# Altium integrated library Linear Technology Power Management PMIC Multifunction.IntLib: 360 symbols (part 19 of 42)
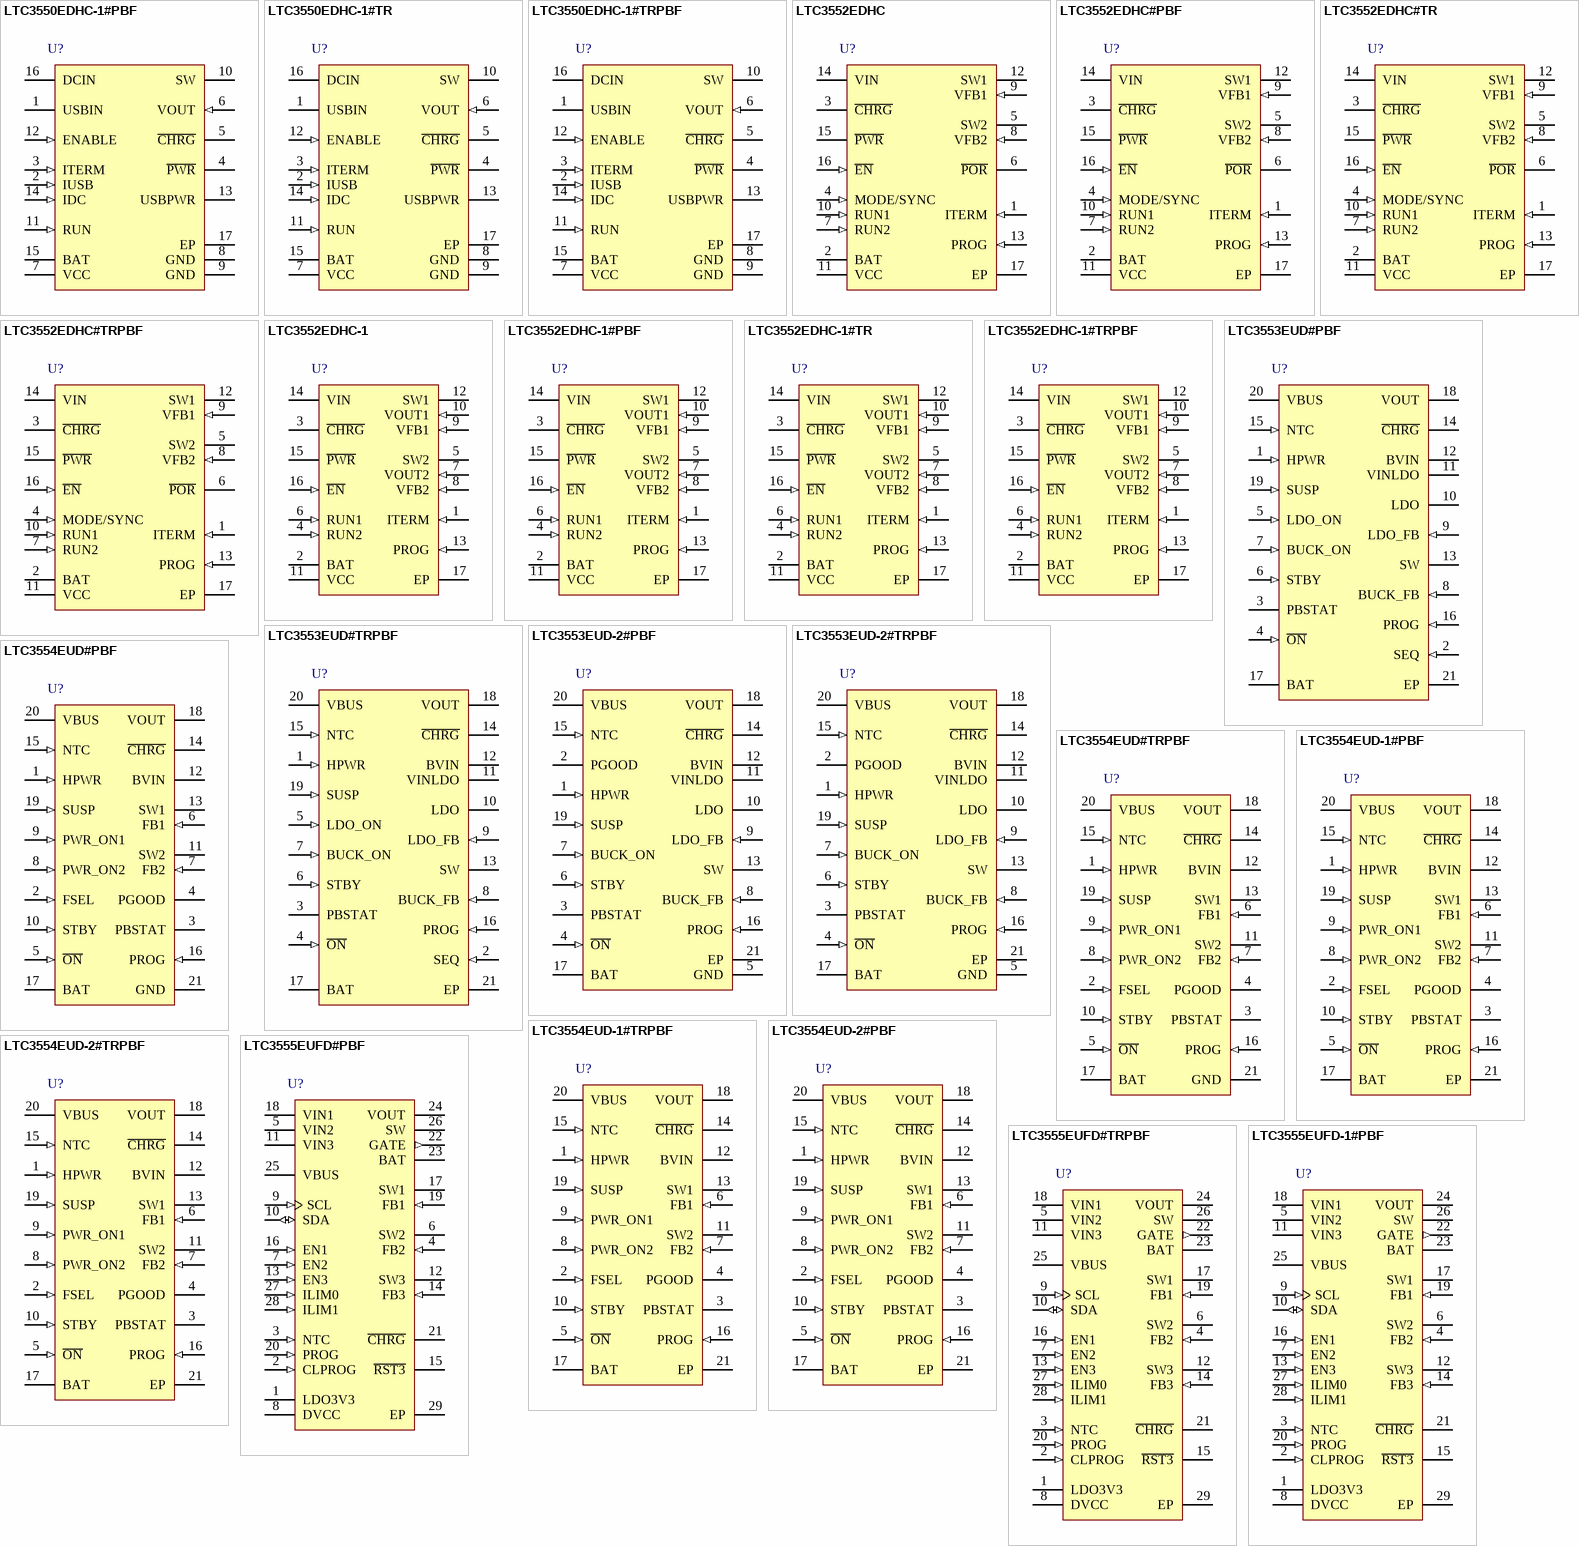
[diagram p36: symbols LTC3550EDHC-1#PBF to LTC3555EUFD-1#PBF]

## LTC3552EDHC
designator U?
Standalone Linear Li-Ion Battery Charger and Dual Synchronous Buck Converter, 4.25 to 8 V Vin, 16-pin SON (DHC-16), -40 to 85 degC; Manufacturer: Linear Technology; PartNumber: LTC3552EDHC; Number of Cells: 1; Number of Outputs: 2; Vin Max(V): 8; Vin Min(V): 4.25; PackageVersion: Jun-10; PackageReference: DHC-16; PackageDescription: 16-Pin Plastic DFN, Body 5 x 3 mm, Pitch 0.5 mm; RoHS: FALSE; Mounting Technology: Surface Mount; Code_JEDEC: MO-229; ComponentLink1Description: Manufacturer URL; ComponentLink1URL: http://www.linear.com/; ComponentLink2Description: Datasheet; ComponentLink2URL: http://cds.linear.com/docs/en/datasheet/3552f.pdf; ComponentLink3Description: Package Specification; ComponentLink3URL: http://cds.linear.com/docs/en/packaging/DFN_16_05-08-1706.pdf
footprint LT-DHC-16_V (SON, 16-Leads, Body 5x3mm, Pitch 0.5mm, Thermal Pad 4.4X1.65mm)
pins: 1 ITERM (in) "Charge Termination Program. The charge termination current threshold is programmed by connecting a 1% resistor, RTERM, to ground. The current threshold ITERM, is set by the following formula", 2 BAT (power) "Charge Current Output. Provides charge current to the battery from the internal P-channel MOSFET, and regulates the final float voltage to 4.2V. An internal precision resistor divider from this pin sets the float voltage. (See Datasheet)", 3 ~{CHRG} (hiz) "Charge Status Open-Drain Output. When the battery is charging, the C\H\R\G\ pin is pulled low by an internal N-channel MOSFET. When the charge cycle is completed, C\H\R\G\ becomes high impedance.", 4 MODE/SYNC (in) "Combination Mode Selection and Oscillator Synchronization. This pin controls the operation of the buck regulators. When tied to VCC or GND, Burst Mode operation or pulse-skipping mode is selected, respectively. Do not float (See Datasheet)", 5 SW2 (power) "Regulator 2 Switch Node Connection to the Inductor. This pin swings from VCC to GND.", 6 ~{POR} (oc) "Power-On Reset. This open-drain logic output is pulled to GND when either output voltage drops 8.5% from the regulated voltage and goes high after 262,144 clock cycles when both regulators are within regulation.", 7 RUN2 (in) "Regulator 2 Enable. Forcing this pin to VCC enables regulator 2, while forcing it to GND causes regulator 2 to shut down. This pin must be driven; do not float.", 8 VFB2 (in) "Output Feedback for Regulator 2. Receives the feedback voltage from the external resistive divider across the output. Normal voltage for this pin is 600mV.", 9 VFB1 (in) "Output Feedback for Regulator 1. Receives the feedback voltage from the external resistive divider across the output. Normal voltage for this pin is 600mV.", 10 RUN1 (in) "Regulator 1 Enable. Forcing this pin to VCC enables regulator 1, while forcing it to GND causes regulator 1 to shut down. This pin must be driven; do not float.", 11 VCC (power) "Buck Regulators Input Supply. Provides power to the switchers. Must be closely decoupled to GND.", 12 SW1 (power) "Regulator 1 Switch Node Connection to the Inductor. This pin swings from VCC to GND.", 13 PROG (in) "Charge Current Program and Charge Current Monitor. Charge current is programmed by connecting a 1% resistor, RPROG, to ground. When charging in constant-current mode, this pin servos to 1V. In all modes, the voltage on this (See Datasheet)", 14 VIN (power) "Charger Input Supply. Provides power to the charger. VIN can range from 4.25V to 8V. This pin should be bypassed with at least a 1uF capacitor. When VIN is within 100mV of the BAT pin voltage, the charger enters shutdown (See Datasheet)", 15 ~{PWR} (hiz) "Charger Power Supply Status Open-Drain Output. When VIN is greater than the undervoltage lockout threshold and at least 100mV above VBAT, the P\W\R\ pin is pulled to ground; otherwise, the pin is high impedance.", 16 ~{EN} (in) "Enable Input. A logic high on the E\N\ pin will put the charger into shutdown mode where the battery drain current is reduced to less than 2uA and the supply current is reduced to less than 50uA. A logic low or floating the (See Datasheet)", 17 EP (power) "Ground. The exposed backside of the package (Pin 17) is ground and must be soldered to the PCB for maximum heat transfer."

## LTC3552EDHC#PBF
designator U?
Standalone Linear Li-Ion Battery Charger and Dual Synchronous Buck Converter, 4.25 to 8 V Vin, 16-pin SON (DHC-16), -40 to 85 degC, Pb-Free; Manufacturer: Linear Technology; PartNumber: LTC3552EDHC#PBF; Number of Cells: 1; Number of Outputs: 2; Vin Max(V): 8; Vin Min(V): 4.25; PackageVersion: Jun-10; PackageReference: DHC-16; PackageDescription: 16-Pin Plastic DFN, Body 5 x 3 mm, Pitch 0.5 mm; Supplier 1: Digi-Key; Supplier Part Number 1: LTC3552EDHC#PBF-ND; RoHS: TRUE; Mounting Technology: Surface Mount; Code_JEDEC: MO-229; ComponentLink1Description: Manufacturer URL; ComponentLink1URL: http://www.linear.com/; ComponentLink2Description: Datasheet; ComponentLink2URL: http://cds.linear.com/docs/en/datasheet/3552f.pdf; ComponentLink3Description: Package Specification; ComponentLink3URL: http://cds.linear.com/docs/en/packaging/DFN_16_05-08-1706.pdf
footprint LT-DHC-16_V (SON, 16-Leads, Body 5x3mm, Pitch 0.5mm, Thermal Pad 4.4X1.65mm)
pins: 1 ITERM (in) "Charge Termination Program. The charge termination current threshold is programmed by connecting a 1% resistor, RTERM, to ground. The current threshold ITERM, is set by the following formula", 2 BAT (power) "Charge Current Output. Provides charge current to the battery from the internal P-channel MOSFET, and regulates the final float voltage to 4.2V. An internal precision resistor divider from this pin sets the float voltage. (See Datasheet)", 3 ~{CHRG} (hiz) "Charge Status Open-Drain Output. When the battery is charging, the C\H\R\G\ pin is pulled low by an internal N-channel MOSFET. When the charge cycle is completed, C\H\R\G\ becomes high impedance.", 4 MODE/SYNC (in) "Combination Mode Selection and Oscillator Synchronization. This pin controls the operation of the buck regulators. When tied to VCC or GND, Burst Mode operation or pulse-skipping mode is selected, respectively. Do not float (See Datasheet)", 5 SW2 (power) "Regulator 2 Switch Node Connection to the Inductor. This pin swings from VCC to GND.", 6 ~{POR} (oc) "Power-On Reset. This open-drain logic output is pulled to GND when either output voltage drops 8.5% from the regulated voltage and goes high after 262,144 clock cycles when both regulators are within regulation.", 7 RUN2 (in) "Regulator 2 Enable. Forcing this pin to VCC enables regulator 2, while forcing it to GND causes regulator 2 to shut down. This pin must be driven; do not float.", 8 VFB2 (in) "Output Feedback for Regulator 2. Receives the feedback voltage from the external resistive divider across the output. Normal voltage for this pin is 600mV.", 9 VFB1 (in) "Output Feedback for Regulator 1. Receives the feedback voltage from the external resistive divider across the output. Normal voltage for this pin is 600mV.", 10 RUN1 (in) "Regulator 1 Enable. Forcing this pin to VCC enables regulator 1, while forcing it to GND causes regulator 1 to shut down. This pin must be driven; do not float.", 11 VCC (power) "Buck Regulators Input Supply. Provides power to the switchers. Must be closely decoupled to GND.", 12 SW1 (power) "Regulator 1 Switch Node Connection to the Inductor. This pin swings from VCC to GND.", 13 PROG (in) "Charge Current Program and Charge Current Monitor. Charge current is programmed by connecting a 1% resistor, RPROG, to ground. When charging in constant-current mode, this pin servos to 1V. In all modes, the voltage on this (See Datasheet)", 14 VIN (power) "Charger Input Supply. Provides power to the charger. VIN can range from 4.25V to 8V. This pin should be bypassed with at least a 1uF capacitor. When VIN is within 100mV of the BAT pin voltage, the charger enters shutdown (See Datasheet)", 15 ~{PWR} (hiz) "Charger Power Supply Status Open-Drain Output. When VIN is greater than the undervoltage lockout threshold and at least 100mV above VBAT, the P\W\R\ pin is pulled to ground; otherwise, the pin is high impedance.", 16 ~{EN} (in) "Enable Input. A logic high on the E\N\ pin will put the charger into shutdown mode where the battery drain current is reduced to less than 2uA and the supply current is reduced to less than 50uA. A logic low or floating the (See Datasheet)", 17 EP (power) "Ground. The exposed backside of the package (Pin 17) is ground and must be soldered to the PCB for maximum heat transfer."

## LTC3552EDHC#TR
designator U?
Standalone Linear Li-Ion Battery Charger and Dual Synchronous Buck Converter, 4.25 to 8 V Vin, 16-pin SON (DHC-16), -40 to 85 degC, Tape and Reel; Manufacturer: Linear Technology; PartNumber: LTC3552EDHC#TR; Number of Cells: 1; Number of Outputs: 2; Vin Max(V): 8; Vin Min(V): 4.25; PackageVersion: Jun-10; PackageReference: DHC-16; PackageDescription: 16-Pin Plastic DFN, Body 5 x 3 mm, Pitch 0.5 mm; Packing: Tape and Reel; RoHS: FALSE; Mounting Technology: Surface Mount; Code_JEDEC: MO-229; ComponentLink1Description: Manufacturer URL; ComponentLink1URL: http://www.linear.com/; ComponentLink2Description: Datasheet; ComponentLink2URL: http://cds.linear.com/docs/en/datasheet/3552f.pdf; ComponentLink3Description: Package Specification; ComponentLink3URL: http://cds.linear.com/docs/en/packaging/DFN_16_05-08-1706.pdf
footprint LT-DHC-16_V (SON, 16-Leads, Body 5x3mm, Pitch 0.5mm, Thermal Pad 4.4X1.65mm)
pins: 1 ITERM (in) "Charge Termination Program. The charge termination current threshold is programmed by connecting a 1% resistor, RTERM, to ground. The current threshold ITERM, is set by the following formula", 2 BAT (power) "Charge Current Output. Provides charge current to the battery from the internal P-channel MOSFET, and regulates the final float voltage to 4.2V. An internal precision resistor divider from this pin sets the float voltage. (See Datasheet)", 3 ~{CHRG} (hiz) "Charge Status Open-Drain Output. When the battery is charging, the C\H\R\G\ pin is pulled low by an internal N-channel MOSFET. When the charge cycle is completed, C\H\R\G\ becomes high impedance.", 4 MODE/SYNC (in) "Combination Mode Selection and Oscillator Synchronization. This pin controls the operation of the buck regulators. When tied to VCC or GND, Burst Mode operation or pulse-skipping mode is selected, respectively. Do not float (See Datasheet)", 5 SW2 (power) "Regulator 2 Switch Node Connection to the Inductor. This pin swings from VCC to GND.", 6 ~{POR} (oc) "Power-On Reset. This open-drain logic output is pulled to GND when either output voltage drops 8.5% from the regulated voltage and goes high after 262,144 clock cycles when both regulators are within regulation.", 7 RUN2 (in) "Regulator 2 Enable. Forcing this pin to VCC enables regulator 2, while forcing it to GND causes regulator 2 to shut down. This pin must be driven; do not float.", 8 VFB2 (in) "Output Feedback for Regulator 2. Receives the feedback voltage from the external resistive divider across the output. Normal voltage for this pin is 600mV.", 9 VFB1 (in) "Output Feedback for Regulator 1. Receives the feedback voltage from the external resistive divider across the output. Normal voltage for this pin is 600mV.", 10 RUN1 (in) "Regulator 1 Enable. Forcing this pin to VCC enables regulator 1, while forcing it to GND causes regulator 1 to shut down. This pin must be driven; do not float.", 11 VCC (power) "Buck Regulators Input Supply. Provides power to the switchers. Must be closely decoupled to GND.", 12 SW1 (power) "Regulator 1 Switch Node Connection to the Inductor. This pin swings from VCC to GND.", 13 PROG (in) "Charge Current Program and Charge Current Monitor. Charge current is programmed by connecting a 1% resistor, RPROG, to ground. When charging in constant-current mode, this pin servos to 1V. In all modes, the voltage on this (See Datasheet)", 14 VIN (power) "Charger Input Supply. Provides power to the charger. VIN can range from 4.25V to 8V. This pin should be bypassed with at least a 1uF capacitor. When VIN is within 100mV of the BAT pin voltage, the charger enters shutdown (See Datasheet)", 15 ~{PWR} (hiz) "Charger Power Supply Status Open-Drain Output. When VIN is greater than the undervoltage lockout threshold and at least 100mV above VBAT, the P\W\R\ pin is pulled to ground; otherwise, the pin is high impedance.", 16 ~{EN} (in) "Enable Input. A logic high on the E\N\ pin will put the charger into shutdown mode where the battery drain current is reduced to less than 2uA and the supply current is reduced to less than 50uA. A logic low or floating the (See Datasheet)", 17 EP (power) "Ground. The exposed backside of the package (Pin 17) is ground and must be soldered to the PCB for maximum heat transfer."

## LTC3552EDHC#TRPBF
designator U?
Standalone Linear Li-Ion Battery Charger and Dual Synchronous Buck Converter, 4.25 to 8 V Vin, 16-pin SON (DHC-16), -40 to 85 degC, Pb-Free, Tape and Reel; Manufacturer: Linear Technology; PartNumber: LTC3552EDHC#TRPBF; Number of Cells: 1; Number of Outputs: 2; Vin Max(V): 8; Vin Min(V): 4.25; PackageVersion: Jun-10; PackageReference: DHC-16; PackageDescription: 16-Pin Plastic DFN, Body 5 x 3 mm, Pitch 0.5 mm; Supplier 1: Digi-Key; Supplier Part Number 1: LTC3552EDHC#TRPBF-ND; Packing: Tape and Reel; RoHS: TRUE; Mounting Technology: Surface Mount; Code_JEDEC: MO-229; ComponentLink1Description: Manufacturer URL; ComponentLink1URL: http://www.linear.com/; ComponentLink2Description: Datasheet; ComponentLink2URL: http://cds.linear.com/docs/en/datasheet/3552f.pdf; ComponentLink3Description: Package Specification; ComponentLink3URL: http://cds.linear.com/docs/en/packaging/DFN_16_05-08-1706.pdf
footprint LT-DHC-16_V (SON, 16-Leads, Body 5x3mm, Pitch 0.5mm, Thermal Pad 4.4X1.65mm)
pins: 1 ITERM (in) "Charge Termination Program. The charge termination current threshold is programmed by connecting a 1% resistor, RTERM, to ground. The current threshold ITERM, is set by the following formula", 2 BAT (power) "Charge Current Output. Provides charge current to the battery from the internal P-channel MOSFET, and regulates the final float voltage to 4.2V. An internal precision resistor divider from this pin sets the float voltage. (See Datasheet)", 3 ~{CHRG} (hiz) "Charge Status Open-Drain Output. When the battery is charging, the C\H\R\G\ pin is pulled low by an internal N-channel MOSFET. When the charge cycle is completed, C\H\R\G\ becomes high impedance.", 4 MODE/SYNC (in) "Combination Mode Selection and Oscillator Synchronization. This pin controls the operation of the buck regulators. When tied to VCC or GND, Burst Mode operation or pulse-skipping mode is selected, respectively. Do not float (See Datasheet)", 5 SW2 (power) "Regulator 2 Switch Node Connection to the Inductor. This pin swings from VCC to GND.", 6 ~{POR} (oc) "Power-On Reset. This open-drain logic output is pulled to GND when either output voltage drops 8.5% from the regulated voltage and goes high after 262,144 clock cycles when both regulators are within regulation.", 7 RUN2 (in) "Regulator 2 Enable. Forcing this pin to VCC enables regulator 2, while forcing it to GND causes regulator 2 to shut down. This pin must be driven; do not float.", 8 VFB2 (in) "Output Feedback for Regulator 2. Receives the feedback voltage from the external resistive divider across the output. Normal voltage for this pin is 600mV.", 9 VFB1 (in) "Output Feedback for Regulator 1. Receives the feedback voltage from the external resistive divider across the output. Normal voltage for this pin is 600mV.", 10 RUN1 (in) "Regulator 1 Enable. Forcing this pin to VCC enables regulator 1, while forcing it to GND causes regulator 1 to shut down. This pin must be driven; do not float.", 11 VCC (power) "Buck Regulators Input Supply. Provides power to the switchers. Must be closely decoupled to GND.", 12 SW1 (power) "Regulator 1 Switch Node Connection to the Inductor. This pin swings from VCC to GND.", 13 PROG (in) "Charge Current Program and Charge Current Monitor. Charge current is programmed by connecting a 1% resistor, RPROG, to ground. When charging in constant-current mode, this pin servos to 1V. In all modes, the voltage on this (See Datasheet)", 14 VIN (power) "Charger Input Supply. Provides power to the charger. VIN can range from 4.25V to 8V. This pin should be bypassed with at least a 1uF capacitor. When VIN is within 100mV of the BAT pin voltage, the charger enters shutdown (See Datasheet)", 15 ~{PWR} (hiz) "Charger Power Supply Status Open-Drain Output. When VIN is greater than the undervoltage lockout threshold and at least 100mV above VBAT, the P\W\R\ pin is pulled to ground; otherwise, the pin is high impedance.", 16 ~{EN} (in) "Enable Input. A logic high on the E\N\ pin will put the charger into shutdown mode where the battery drain current is reduced to less than 2uA and the supply current is reduced to less than 50uA. A logic low or floating the (See Datasheet)", 17 EP (power) "Ground. The exposed backside of the package (Pin 17) is ground and must be soldered to the PCB for maximum heat transfer."

## LTC3552EDHC-1
designator U?
Standalone Linear Li-Ion Battery Charger and Dual Synchronous Buck Converter, 4.25 to 8 V Vin, 16-pin SON (DHC-16), -40 to 85 degC; Manufacturer: Linear Technology; PartNumber: LTC3552EDHC-1; Number of Cells: 1; Number of Outputs: 2; Vin Max(V): 8; Vin Min(V): 4.25; DatasheetVersion: Rev. A; PackageVersion: Jun-10; PackageReference: DHC-16; PackageDescription: 16-Pin Plastic DFN, Body 5 x 3 mm, Pitch 0.5 mm; RoHS: FALSE; Mounting Technology: Surface Mount; Code_JEDEC: MO-229; ComponentLink1Description: Manufacturer URL; ComponentLink1URL: http://www.linear.com/; ComponentLink2Description: Datasheet; ComponentLink2URL: http://cds.linear.com/docs/en/datasheet/35521fa.pdf; ComponentLink3Description: Package Specification; ComponentLink3URL: http://cds.linear.com/docs/en/packaging/DFN_16_05-08-1706.pdf
footprint LT-DHC-16_V (SON, 16-Leads, Body 5x3mm, Pitch 0.5mm, Thermal Pad 4.4X1.65mm)
pins: 1 ITERM (in) "Charge Termination Program. The charge termination current threshold is programmed by connecting a 1% resistor, RTERM, to ground. The current threshold ITERM, is set by the following formula", 2 BAT (power) "Charge Current Output. Provides charge current to the battery from the internal P-channel MOSFET, and regulates the final float voltage to 4.2V. An internal precision resistor divider from this pin sets the float voltage. (See Datasheet)", 3 ~{CHRG} (hiz) "Charge Status Open-Drain Output. When the battery is charging, the C\H\R\G\ pin is pulled low by an internal N-channel MOSFET. When the charge cycle is completed, C\H\R\G\ becomes high impedance.", 4 RUN2 (in) "Regulator 2 Enable. Forcing this pin to VCC enables regulator 2, while forcing it to GND causes regulator 2 to shut down. This pin must be driven; do not float.", 5 SW2 (power) "Regulator 2 Switch Node Connection to the Inductor. This pin swings from VCC to GND.", 6 RUN1 (in) "Regulator 1 Enable. Forcing this pin to VCC enables regulator 1, while forcing it to GND causes regulator 1 to shut down. This pin must be driven; do not float.", 7 VOUT2 (in) "Output Voltage Feedback Pin for Regulator 2. Internal resistors divide the output voltage down for comparison to the internal reference voltage.", 8 VFB2 (in) "Output Feedback for Regulator 2. Receives the feedback voltage from the external resistive divider across the output. Normal voltage for this pin is 600mV.", 9 VFB1 (in) "Output Feedback for Regulator 1. Receives the feedback voltage from the external resistive divider across the output. Normal voltage for this pin is 600mV.", 10 VOUT1 (in) "Output Voltage Feedback Pin for Regulator 1. Internal resistors divide the output voltage down for comparison to the internal reference voltage.", 11 VCC (power) "Buck Regulators Input Supply. Provides power to the switchers. Must be closely decoupled to GND.", 12 SW1 (power) "Regulator 1 Switch Node Connection to the Inductor. This pin swings from VCC to GND.", 13 PROG (in) "Charge Current Program and Charge Current Monitor. Charge current is programmed by connecting a 1% resistor, RPROG, to ground. When charging in constant-current mode, this pin servos to 1V. In all modes, the voltage on this (See Datasheet)", 14 VIN (power) "Charger Input Supply. Provides power to the charger. VIN can range from 4.25V to 8V. This pin should be bypassed with at least a 1uF capacitor. When VIN is within 100mV of the BAT pin voltage, the charger enters shutdown (See Datasheet)", 15 ~{PWR} (hiz) "Charger Power Supply Status Open-Drain Output. When VIN is greater than the undervoltage lockout threshold and at least 100mV above VBAT, the P\W\R\ pin is pulled to ground; otherwise, the pin is high impedance.", 16 ~{EN} (in) "Enable Input. A logic high on the E\N\ pin will put the charger into shutdown mode where the battery drain current is reduced to less than 2uA and the supply current is reduced to less than 50uA. A logic low or floating the (See Datasheet)", 17 EP (power) "Ground. The exposed backside of the package (Pin 17) is ground and must be soldered to the PCB for maximum heat transfer."

## LTC3552EDHC-1#PBF
designator U?
Standalone Linear Li-Ion Battery Charger and Dual Synchronous Buck Converter, 4.25 to 8 V Vin, 16-pin SON (DHC-16), -40 to 85 degC, Pb-Free; Manufacturer: Linear Technology; PartNumber: LTC3552EDHC-1#PBF; Number of Cells: 1; Number of Outputs: 2; Vin Max(V): 8; Vin Min(V): 4.25; DatasheetVersion: Rev. A; PackageVersion: Jun-10; PackageReference: DHC-16; PackageDescription: 16-Pin Plastic DFN, Body 5 x 3 mm, Pitch 0.5 mm; Supplier 1: Digi-Key; Supplier Part Number 1: LTC3552EDHC-1#PBF-ND; RoHS: TRUE; Mounting Technology: Surface Mount; Code_JEDEC: MO-229; ComponentLink1Description: Manufacturer URL; ComponentLink1URL: http://www.linear.com/; ComponentLink2Description: Datasheet; ComponentLink2URL: http://cds.linear.com/docs/en/datasheet/35521fa.pdf; ComponentLink3Description: Package Specification; ComponentLink3URL: http://cds.linear.com/docs/en/packaging/DFN_16_05-08-1706.pdf
footprint LT-DHC-16_V (SON, 16-Leads, Body 5x3mm, Pitch 0.5mm, Thermal Pad 4.4X1.65mm)
pins: 1 ITERM (in) "Charge Termination Program. The charge termination current threshold is programmed by connecting a 1% resistor, RTERM, to ground. The current threshold ITERM, is set by the following formula", 2 BAT (power) "Charge Current Output. Provides charge current to the battery from the internal P-channel MOSFET, and regulates the final float voltage to 4.2V. An internal precision resistor divider from this pin sets the float voltage. (See Datasheet)", 3 ~{CHRG} (hiz) "Charge Status Open-Drain Output. When the battery is charging, the C\H\R\G\ pin is pulled low by an internal N-channel MOSFET. When the charge cycle is completed, C\H\R\G\ becomes high impedance.", 4 RUN2 (in) "Regulator 2 Enable. Forcing this pin to VCC enables regulator 2, while forcing it to GND causes regulator 2 to shut down. This pin must be driven; do not float.", 5 SW2 (power) "Regulator 2 Switch Node Connection to the Inductor. This pin swings from VCC to GND.", 6 RUN1 (in) "Regulator 1 Enable. Forcing this pin to VCC enables regulator 1, while forcing it to GND causes regulator 1 to shut down. This pin must be driven; do not float.", 7 VOUT2 (in) "Output Voltage Feedback Pin for Regulator 2. Internal resistors divide the output voltage down for comparison to the internal reference voltage.", 8 VFB2 (in) "Output Feedback for Regulator 2. Receives the feedback voltage from the external resistive divider across the output. Normal voltage for this pin is 600mV.", 9 VFB1 (in) "Output Feedback for Regulator 1. Receives the feedback voltage from the external resistive divider across the output. Normal voltage for this pin is 600mV.", 10 VOUT1 (in) "Output Voltage Feedback Pin for Regulator 1. Internal resistors divide the output voltage down for comparison to the internal reference voltage.", 11 VCC (power) "Buck Regulators Input Supply. Provides power to the switchers. Must be closely decoupled to GND.", 12 SW1 (power) "Regulator 1 Switch Node Connection to the Inductor. This pin swings from VCC to GND.", 13 PROG (in) "Charge Current Program and Charge Current Monitor. Charge current is programmed by connecting a 1% resistor, RPROG, to ground. When charging in constant-current mode, this pin servos to 1V. In all modes, the voltage on this (See Datasheet)", 14 VIN (power) "Charger Input Supply. Provides power to the charger. VIN can range from 4.25V to 8V. This pin should be bypassed with at least a 1uF capacitor. When VIN is within 100mV of the BAT pin voltage, the charger enters shutdown (See Datasheet)", 15 ~{PWR} (hiz) "Charger Power Supply Status Open-Drain Output. When VIN is greater than the undervoltage lockout threshold and at least 100mV above VBAT, the P\W\R\ pin is pulled to ground; otherwise, the pin is high impedance.", 16 ~{EN} (in) "Enable Input. A logic high on the E\N\ pin will put the charger into shutdown mode where the battery drain current is reduced to less than 2uA and the supply current is reduced to less than 50uA. A logic low or floating the (See Datasheet)", 17 EP (power) "Ground. The exposed backside of the package (Pin 17) is ground and must be soldered to the PCB for maximum heat transfer."

## LTC3552EDHC-1#TR
designator U?
Standalone Linear Li-Ion Battery Charger and Dual Synchronous Buck Converter, 4.25 to 8 V Vin, 16-pin SON (DHC-16), -40 to 85 degC, Tape and Reel; Manufacturer: Linear Technology; PartNumber: LTC3552EDHC-1#TR; Number of Cells: 1; Number of Outputs: 2; Vin Max(V): 8; Vin Min(V): 4.25; DatasheetVersion: Rev. A; PackageVersion: Jun-10; PackageReference: DHC-16; PackageDescription: 16-Pin Plastic DFN, Body 5 x 3 mm, Pitch 0.5 mm; Packing: Tape and Reel; RoHS: FALSE; Mounting Technology: Surface Mount; Code_JEDEC: MO-229; ComponentLink1Description: Manufacturer URL; ComponentLink1URL: http://www.linear.com/; ComponentLink2Description: Datasheet; ComponentLink2URL: http://cds.linear.com/docs/en/datasheet/35521fa.pdf; ComponentLink3Description: Package Specification; ComponentLink3URL: http://cds.linear.com/docs/en/packaging/DFN_16_05-08-1706.pdf
footprint LT-DHC-16_V (SON, 16-Leads, Body 5x3mm, Pitch 0.5mm, Thermal Pad 4.4X1.65mm)
pins: 1 ITERM (in) "Charge Termination Program. The charge termination current threshold is programmed by connecting a 1% resistor, RTERM, to ground. The current threshold ITERM, is set by the following formula", 2 BAT (power) "Charge Current Output. Provides charge current to the battery from the internal P-channel MOSFET, and regulates the final float voltage to 4.2V. An internal precision resistor divider from this pin sets the float voltage. (See Datasheet)", 3 ~{CHRG} (hiz) "Charge Status Open-Drain Output. When the battery is charging, the C\H\R\G\ pin is pulled low by an internal N-channel MOSFET. When the charge cycle is completed, C\H\R\G\ becomes high impedance.", 4 RUN2 (in) "Regulator 2 Enable. Forcing this pin to VCC enables regulator 2, while forcing it to GND causes regulator 2 to shut down. This pin must be driven; do not float.", 5 SW2 (power) "Regulator 2 Switch Node Connection to the Inductor. This pin swings from VCC to GND.", 6 RUN1 (in) "Regulator 1 Enable. Forcing this pin to VCC enables regulator 1, while forcing it to GND causes regulator 1 to shut down. This pin must be driven; do not float.", 7 VOUT2 (in) "Output Voltage Feedback Pin for Regulator 2. Internal resistors divide the output voltage down for comparison to the internal reference voltage.", 8 VFB2 (in) "Output Feedback for Regulator 2. Receives the feedback voltage from the external resistive divider across the output. Normal voltage for this pin is 600mV.", 9 VFB1 (in) "Output Feedback for Regulator 1. Receives the feedback voltage from the external resistive divider across the output. Normal voltage for this pin is 600mV.", 10 VOUT1 (in) "Output Voltage Feedback Pin for Regulator 1. Internal resistors divide the output voltage down for comparison to the internal reference voltage.", 11 VCC (power) "Buck Regulators Input Supply. Provides power to the switchers. Must be closely decoupled to GND.", 12 SW1 (power) "Regulator 1 Switch Node Connection to the Inductor. This pin swings from VCC to GND.", 13 PROG (in) "Charge Current Program and Charge Current Monitor. Charge current is programmed by connecting a 1% resistor, RPROG, to ground. When charging in constant-current mode, this pin servos to 1V. In all modes, the voltage on this (See Datasheet)", 14 VIN (power) "Charger Input Supply. Provides power to the charger. VIN can range from 4.25V to 8V. This pin should be bypassed with at least a 1uF capacitor. When VIN is within 100mV of the BAT pin voltage, the charger enters shutdown (See Datasheet)", 15 ~{PWR} (hiz) "Charger Power Supply Status Open-Drain Output. When VIN is greater than the undervoltage lockout threshold and at least 100mV above VBAT, the P\W\R\ pin is pulled to ground; otherwise, the pin is high impedance.", 16 ~{EN} (in) "Enable Input. A logic high on the E\N\ pin will put the charger into shutdown mode where the battery drain current is reduced to less than 2uA and the supply current is reduced to less than 50uA. A logic low or floating the (See Datasheet)", 17 EP (power) "Ground. The exposed backside of the package (Pin 17) is ground and must be soldered to the PCB for maximum heat transfer."

## LTC3552EDHC-1#TRPBF
designator U?
Standalone Linear Li-Ion Battery Charger and Dual Synchronous Buck Converter, 4.25 to 8 V Vin, 16-pin SON (DHC-16), -40 to 85 degC, Pb-Free, Tape and Reel; Manufacturer: Linear Technology; PartNumber: LTC3552EDHC-1#TRPBF; Number of Cells: 1; Number of Outputs: 2; Vin Max(V): 8; Vin Min(V): 4.25; DatasheetVersion: Rev. A; PackageVersion: Jun-10; PackageReference: DHC-16; PackageDescription: 16-Pin Plastic DFN, Body 5 x 3 mm, Pitch 0.5 mm; Supplier 1: Digi-Key; Supplier Part Number 1: LTC3552EDHC-1#TRPBF-ND; Packing: Tape and Reel; RoHS: TRUE; Mounting Technology: Surface Mount; Code_JEDEC: MO-229; ComponentLink1Description: Manufacturer URL; ComponentLink1URL: http://www.linear.com/; ComponentLink2Description: Datasheet; ComponentLink2URL: http://cds.linear.com/docs/en/datasheet/35521fa.pdf; ComponentLink3Description: Package Specification; ComponentLink3URL: http://cds.linear.com/docs/en/packaging/DFN_16_05-08-1706.pdf
footprint LT-DHC-16_V (SON, 16-Leads, Body 5x3mm, Pitch 0.5mm, Thermal Pad 4.4X1.65mm)
pins: 1 ITERM (in) "Charge Termination Program. The charge termination current threshold is programmed by connecting a 1% resistor, RTERM, to ground. The current threshold ITERM, is set by the following formula", 2 BAT (power) "Charge Current Output. Provides charge current to the battery from the internal P-channel MOSFET, and regulates the final float voltage to 4.2V. An internal precision resistor divider from this pin sets the float voltage. (See Datasheet)", 3 ~{CHRG} (hiz) "Charge Status Open-Drain Output. When the battery is charging, the C\H\R\G\ pin is pulled low by an internal N-channel MOSFET. When the charge cycle is completed, C\H\R\G\ becomes high impedance.", 4 RUN2 (in) "Regulator 2 Enable. Forcing this pin to VCC enables regulator 2, while forcing it to GND causes regulator 2 to shut down. This pin must be driven; do not float.", 5 SW2 (power) "Regulator 2 Switch Node Connection to the Inductor. This pin swings from VCC to GND.", 6 RUN1 (in) "Regulator 1 Enable. Forcing this pin to VCC enables regulator 1, while forcing it to GND causes regulator 1 to shut down. This pin must be driven; do not float.", 7 VOUT2 (in) "Output Voltage Feedback Pin for Regulator 2. Internal resistors divide the output voltage down for comparison to the internal reference voltage.", 8 VFB2 (in) "Output Feedback for Regulator 2. Receives the feedback voltage from the external resistive divider across the output. Normal voltage for this pin is 600mV.", 9 VFB1 (in) "Output Feedback for Regulator 1. Receives the feedback voltage from the external resistive divider across the output. Normal voltage for this pin is 600mV.", 10 VOUT1 (in) "Output Voltage Feedback Pin for Regulator 1. Internal resistors divide the output voltage down for comparison to the internal reference voltage.", 11 VCC (power) "Buck Regulators Input Supply. Provides power to the switchers. Must be closely decoupled to GND.", 12 SW1 (power) "Regulator 1 Switch Node Connection to the Inductor. This pin swings from VCC to GND.", 13 PROG (in) "Charge Current Program and Charge Current Monitor. Charge current is programmed by connecting a 1% resistor, RPROG, to ground. When charging in constant-current mode, this pin servos to 1V. In all modes, the voltage on this (See Datasheet)", 14 VIN (power) "Charger Input Supply. Provides power to the charger. VIN can range from 4.25V to 8V. This pin should be bypassed with at least a 1uF capacitor. When VIN is within 100mV of the BAT pin voltage, the charger enters shutdown (See Datasheet)", 15 ~{PWR} (hiz) "Charger Power Supply Status Open-Drain Output. When VIN is greater than the undervoltage lockout threshold and at least 100mV above VBAT, the P\W\R\ pin is pulled to ground; otherwise, the pin is high impedance.", 16 ~{EN} (in) "Enable Input. A logic high on the E\N\ pin will put the charger into shutdown mode where the battery drain current is reduced to less than 2uA and the supply current is reduced to less than 50uA. A logic low or floating the (See Datasheet)", 17 EP (power) "Ground. The exposed backside of the package (Pin 17) is ground and must be soldered to the PCB for maximum heat transfer."

## LTC3553EUD#PBF
designator U?
Micropower USB Power Manager with Li-Ion Charger, LDO and Buck Regulator, 4.35 to 5.5 V Vin, 20-pin QFN (UD-20), -40 to 85 degC, Pb-Free, Tape and Reel; Manufacturer: Linear Technology; PartNumber: LTC3553EUD#PBF; Number of Cells: 1; Number of Outputs: 2; Vin Max(V): 5.5; Vin Min(V): 4.35; DatasheetVersion: Rev. B; PackageVersion: Rev. A, 06/2010; PackageReference: UD-20; PackageDescription: 20-Pin Plastic QFN, Body 3 x 3 mm, Pitch 0.4 mm; Supplier 1: Digi-Key; Supplier Part Number 1: LTC3553EUD#PBF-ND; Supplier 2: Farnell; Supplier Part Number 2: 2295474; Supplier 3: Newark; Supplier Part Number 3: 84R4958; RoHS: TRUE; Mounting Technology: Surface Mount; ComponentLink1Description: Manufacturer URL; ComponentLink1URL: http://www.linear.com/; ComponentLink2Description: Datasheet; ComponentLink2URL: http://cds.linear.com/docs/en/datasheet/3553fb.pdf; ComponentLink3Description: Package Specification; ComponentLink3URL: http://cds.linear.com/docs/en/packaging/QFN_20_05-08-1720.pdf
footprint LT-UD-20_N (QFN, 20-Leads, Body 3.1x3.1mm, Pitch 0.4mm, Thermal Pad 1.65x1.65mm, IPC Medium Density)
footprint LT-UD-20_L (QFN, 20-Leads, Body 3.1x3.1mm, Pitch 0.4mm, Thermal Pad 1.65x1.65mm, IPC High Density)
footprint LT-UD-20_M (QFN, 20-Leads, Body 3.1x3.1mm, Pitch 0.4mm, Thermal Pad 1.65x1.65mm, IPC Low Density)
pins: 1 HPWR (in) "High Power Logic Input. When this pin is low the input current limit is set to 100mA and when this pin is driven high it is set to 500mA. The SUSP pin needs to be low for the input current limit circuit to be enabled. This (See Datasheet)", 2 SEQ (in) "Regulator Power-Up Sequence Select. While in the power off or hard reset states, a button press or application of USB bus power causes the pushbutton interface to temporarily enable both regulators. The state of the SEQ pin (See Datasheet)", 3 PBSTAT (hiz) "Pushbutton Status. This open-drain output is a debounced and buffered version of the O\N\ pushbutton input. It may be used to interrupt a microprocessor.", 4 ~{ON} (in) "Pushbutton Input. Weak internal pull-up forces a high state if O\N\ is left floating. A normally open pushbutton is connected from O\N\ to ground to force a low state on this pin.", 5 LDO_ON (in) "Logic Input Enables the Low Dropout (LDO) Regulator. This pin must be driven to a valid logic level. Do not float this pin.", 6 STBY (in) "Standby Mode. When this pin is driven high, the buck and LDO regulator quiescent current is reduced to very low levels, while still maintaining output voltage regulation. In this mode, the buck regulator is limited to 10mA (See Datasheet)", 7 BUCK_ON (in) "Logic Input Enables the Buck Regulator. This pin must be driven to a valid logic level. Do not float this pin.", 8 BUCK_FB (in) "Feedback Input for the Buck Regulator. This pin servos to a fixed voltage of 0.8V when the control loop is complete.", 9 LDO_FB (in) "Feedback Input for the Low Dropout Regulator. This pin servos to a fixed voltage of 0.8V when the control loop is complete.", 10 LDO (power) "Low Dropout (LDO) Linear Regulator Output. This pin should be bypassed with a low impedance multilayer ceramic capacitor.", 11 VINLDO (power) "Power Input Pin for the LDO Regulator. This pin is to be connected to VOUT or any supply voltage below VOUT, such as the buck regulator output. This pin should be bypassed with a low impedance multilayer ceramic capacitor.", 12 BVIN (power) "Power Input for the Buck Regulator. It is recommended that this pin be connected to the VOUT pin. It should be bypassed with a low impedance multilayer ceramic capacitor.", 13 SW (power) "Power Transmission (Switch) Pin for the Buck Regulator.", 14 ~{CHRG} (hiz) "Open-Drain Charge Status Output. This pin indicates the status of the battery charger. It is internally pulled low while charging. Once the battery charge current reduces to less than one-tenth of the programmed charge (See Datasheet)", 15 NTC (in) "The NTC pin connects to a battery’s thermistor to determine if the battery is too hot or too cold to charge. If the battery’s temperature is out of range, charging is paused until it drops back into range. A low dr(See Datasheet)", 16 PROG (in) "Charge Current Program and Charge Current Monitor Pin. Connecting a resistor from PROG to ground programs the charge current as given by: ICHG (A)= 750V /RPROG If sufficient input power is available in constant-current mode, (See Datasheet)", 17 BAT (power) "Single-Cell Li-Ion Battery Pin. Depending on available power and load, a Li-Ion battery on BAT will either deliver system power to VOUT through the ideal diode or be charged from the battery charger.", 18 VOUT (power) "Output Voltage of the PowerPath Controller and Input Voltage of the Battery Charger. The majority of the portable products should be powered from VOUT. The LTC3553 will partition the available power between the external load (See Datasheet)", 19 SUSP (in) "Suspend Mode Logic Input. If this pin is driven high the input current limit path is disabled. In this state the circuit draws negligible power from the VBUS pin. Any load at the VOUT pin is provided by the battery through (See Datasheet)", 20 VBUS (power) "USB Input Voltage. VBUS will usually be connected to the USB port of a computer or a DC output wall adapter. VBUS should be bypassed with a low impedance multilayer ceramic capacitor.", 21 EP (power) "Ground. The exposed package pad is ground and must be soldered to the PC board for proper functionality and for maximum heat transfer."

## LTC3553EUD#TRPBF
designator U?
Micropower USB Power Manager with Li-Ion Charger, LDO and Buck Regulator, 4.35 to 5.5 V Vin, 20-pin QFN (UD-20), -40 to 85 degC, Pb-Free, Tape and Reel; Manufacturer: Linear Technology; PartNumber: LTC3553EUD#TRPBF; Number of Cells: 1; Number of Outputs: 2; Vin Max(V): 5.5; Vin Min(V): 4.35; DatasheetVersion: Rev. B; PackageVersion: Rev. A, 06/2010; PackageReference: UD-20; PackageDescription: 20-Pin Plastic QFN, Body 3 x 3 mm, Pitch 0.4 mm; Supplier 1: Digi-Key; Supplier Part Number 1: LTC3553EUD#TRPBF-ND; Supplier 2: Newark; Supplier Part Number 2: 84R4959; Packing: Tape and Reel; RoHS: TRUE; Mounting Technology: Surface Mount; ComponentLink1Description: Manufacturer URL; ComponentLink1URL: http://www.linear.com/; ComponentLink2Description: Datasheet; ComponentLink2URL: http://cds.linear.com/docs/en/datasheet/3553fb.pdf; ComponentLink3Description: Package Specification; ComponentLink3URL: http://cds.linear.com/docs/en/packaging/QFN_20_05-08-1720.pdf
footprint LT-UD-20_N (QFN, 20-Leads, Body 3.1x3.1mm, Pitch 0.4mm, Thermal Pad 1.65x1.65mm, IPC Medium Density)
footprint LT-UD-20_L (QFN, 20-Leads, Body 3.1x3.1mm, Pitch 0.4mm, Thermal Pad 1.65x1.65mm, IPC High Density)
footprint LT-UD-20_M (QFN, 20-Leads, Body 3.1x3.1mm, Pitch 0.4mm, Thermal Pad 1.65x1.65mm, IPC Low Density)
pins: 1 HPWR (in) "High Power Logic Input. When this pin is low the input current limit is set to 100mA and when this pin is driven high it is set to 500mA. The SUSP pin needs to be low for the input current limit circuit to be enabled. This (See Datasheet)", 2 SEQ (in) "Regulator Power-Up Sequence Select. While in the power off or hard reset states, a button press or application of USB bus power causes the pushbutton interface to temporarily enable both regulators. The state of the SEQ pin (See Datasheet)", 3 PBSTAT (hiz) "Pushbutton Status. This open-drain output is a debounced and buffered version of the O\N\ pushbutton input. It may be used to interrupt a microprocessor.", 4 ~{ON} (in) "Pushbutton Input. Weak internal pull-up forces a high state if O\N\ is left floating. A normally open pushbutton is connected from O\N\ to ground to force a low state on this pin.", 5 LDO_ON (in) "Logic Input Enables the Low Dropout (LDO) Regulator. This pin must be driven to a valid logic level. Do not float this pin.", 6 STBY (in) "Standby Mode. When this pin is driven high, the buck and LDO regulator quiescent current is reduced to very low levels, while still maintaining output voltage regulation. In this mode, the buck regulator is limited to 10mA (See Datasheet)", 7 BUCK_ON (in) "Logic Input Enables the Buck Regulator. This pin must be driven to a valid logic level. Do not float this pin.", 8 BUCK_FB (in) "Feedback Input for the Buck Regulator. This pin servos to a fixed voltage of 0.8V when the control loop is complete.", 9 LDO_FB (in) "Feedback Input for the Low Dropout Regulator. This pin servos to a fixed voltage of 0.8V when the control loop is complete.", 10 LDO (power) "Low Dropout (LDO) Linear Regulator Output. This pin should be bypassed with a low impedance multilayer ceramic capacitor.", 11 VINLDO (power) "Power Input Pin for the LDO Regulator. This pin is to be connected to VOUT or any supply voltage below VOUT, such as the buck regulator output. This pin should be bypassed with a low impedance multilayer ceramic capacitor.", 12 BVIN (power) "Power Input for the Buck Regulator. It is recommended that this pin be connected to the VOUT pin. It should be bypassed with a low impedance multilayer ceramic capacitor.", 13 SW (power) "Power Transmission (Switch) Pin for the Buck Regulator.", 14 ~{CHRG} (hiz) "Open-Drain Charge Status Output. This pin indicates the status of the battery charger. It is internally pulled low while charging. Once the battery charge current reduces to less than one-tenth of the programmed charge (See Datasheet)", 15 NTC (in) "The NTC pin connects to a battery’s thermistor to determine if the battery is too hot or too cold to charge. If the battery’s temperature is out of range, charging is paused until it drops back into range. A low dr(See Datasheet)", 16 PROG (in) "Charge Current Program and Charge Current Monitor Pin. Connecting a resistor from PROG to ground programs the charge current as given by: ICHG (A)= 750V /RPROG If sufficient input power is available in constant-current mode, (See Datasheet)", 17 BAT (power) "Single-Cell Li-Ion Battery Pin. Depending on available power and load, a Li-Ion battery on BAT will either deliver system power to VOUT through the ideal diode or be charged from the battery charger.", 18 VOUT (power) "Output Voltage of the PowerPath Controller and Input Voltage of the Battery Charger. The majority of the portable products should be powered from VOUT. The LTC3553 will partition the available power between the external load (See Datasheet)", 19 SUSP (in) "Suspend Mode Logic Input. If this pin is driven high the input current limit path is disabled. In this state the circuit draws negligible power from the VBUS pin. Any load at the VOUT pin is provided by the battery through (See Datasheet)", 20 VBUS (power) "USB Input Voltage. VBUS will usually be connected to the USB port of a computer or a DC output wall adapter. VBUS should be bypassed with a low impedance multilayer ceramic capacitor.", 21 EP (power) "Ground. The exposed package pad is ground and must be soldered to the PC board for proper functionality and for maximum heat transfer."